# Altium footprint library mp2315.PcbLib: 2 footprints
Each footprint in its own frame and in the unit in brackets; x right, y up, seen from the top. Pads: shape width x height; smd on the part's side, far side on the other; paste and mask are expansions set on the pad; w line width, h text height; cw(c..) or ccw(c..) is an arc to the next point about the centre after c.
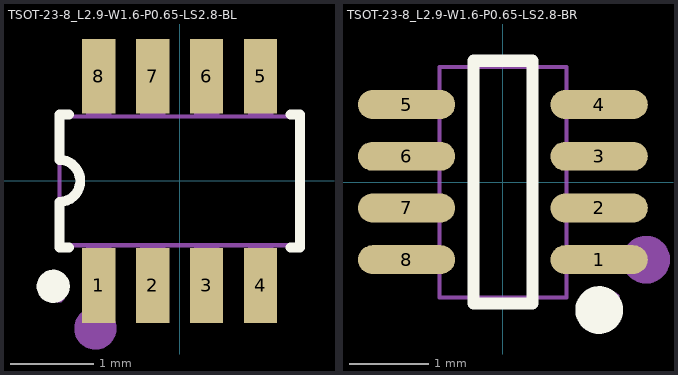
[diagram p0: the footprints below, top view; thin cyan lines are the x and y axes]

## TSOT-23-8_L2.9-W1.6-P0.65-LS2.8-BL [mm]
pads (8):
  rect 0.4x0.9 smd: 1(-0.975,-1.26) 2(-0.325,-1.26) 3(0.325,-1.26) 4(0.975,-1.26) 5(0.975,1.26) 6(0.325,1.26) 7(-0.325,1.26) 8(-0.975,1.26)
Top Overlay:
  circle w0.2: c-1.524,-1.27 r0.1
  lines w0.12: -1.451,-0.255 ccw(c-1.453,-0.001) -1.45,0.254 -1.45,0.8 -1.334,0.8 ; -1.45,-0.254 -1.45,-0.8 -1.334,-0.8 ; 1.334,-0.8 1.45,-0.8 1.45,0.8 1.334,0.8
Mechanical 6:
  circle w0.254: c-1.016,-1.778 r0.127
Mechanical 15:
  region: -1.125,-1.4 -1.125,-0.95 -0.825,-0.95 -0.825,-1.4
  region: -1.125,-0.96 -1.125,-0.765 -0.825,-0.765 -0.825,-0.96
  region: -0.475,-1.4 -0.475,-0.95 -0.175,-0.95 -0.175,-1.4
  region: -0.475,-0.96 -0.475,-0.765 -0.175,-0.765 -0.175,-0.96
  region: 0.175,-1.4 0.175,-0.95 0.475,-0.95 0.475,-1.4
  region: 0.175,-0.96 0.175,-0.765 0.475,-0.765 0.475,-0.96
  region: 0.825,-1.4 0.825,-0.95 1.125,-0.95 1.125,-1.4
  region: 0.825,-0.96 0.825,-0.765 1.125,-0.765 1.125,-0.96
  region: 0.825,0.95 0.825,1.4 1.125,1.4 1.125,0.95
  region: 0.825,0.765 0.825,0.96 1.125,0.96 1.125,0.765
  region: 0.175,0.95 0.175,1.4 0.475,1.4 0.475,0.95
  region: 0.175,0.765 0.175,0.96 0.475,0.96 0.475,0.765
  region: -0.475,0.95 -0.475,1.4 -0.175,1.4 -0.175,0.95
  region: -0.475,0.765 -0.475,0.96 -0.175,0.96 -0.175,0.765
  region: -1.125,0.95 -1.125,1.4 -0.825,1.4 -0.825,0.95
  region: -1.125,0.765 -1.125,0.96 -0.825,0.96 -0.825,0.765
  region: -1.39,-1.4 -1.39,-1.425 -1.425,-1.46 -1.475,-1.46 -1.51,-1.425 -1.51,-1.4 -1.51,-1.375 -1.475,-1.34 -1.425,-1.34 -1.39,-1.375
  lines w0.051: -1.45,-0.775 1.45,-0.775 1.45,0.775 -1.45,0.775 -1.45,-0.775

## TSOT-23-8_L2.9-W1.6-P0.65-LS2.8-BR [mm]
pads (8):
  oval 1.222x0.364 smd: 1(1.211,-0.975) 2(1.211,-0.325) 3(1.211,0.325) 4(1.211,0.975) 5(-1.211,0.975) 6(-1.211,0.325) 7(-1.211,-0.325) 8(-1.211,-0.975)
Top Overlay:
  circle w0.3: c1.211,-1.609 r0.15
  lines w0.152: -0.371,-1.526 -0.371,1.526 0.371,1.526 0.371,-1.526 -0.371,-1.526
Mechanical 6:
  circle w0.3: c1.8,-0.975 r0.15
Mechanical 15:
  region: -1.01,0.825 -0.79,0.825 -0.79,1.125 -1.01,1.125
  region: -1.4,0.825 -1,0.825 -1,1.125 -1.4,1.125
  region: -1.01,0.175 -0.79,0.175 -0.79,0.475 -1.01,0.475
  region: -1.4,0.175 -1,0.175 -1,0.475 -1.4,0.475
  region: -1.01,-0.475 -0.79,-0.475 -0.79,-0.175 -1.01,-0.175
  region: -1.4,-0.475 -1,-0.475 -1,-0.175 -1.4,-0.175
  region: -1.01,-1.125 -0.79,-1.125 -0.79,-0.825 -1.01,-0.825
  region: -1.4,-1.125 -1,-1.125 -1,-0.825 -1.4,-0.825
  region: 1.01,0.825 0.79,0.825 0.79,1.125 1.01,1.125
  region: 1.4,0.825 1,0.825 1,1.125 1.4,1.125
  region: 1.01,0.175 0.79,0.175 0.79,0.475 1.01,0.475
  region: 1.4,0.175 1,0.175 1,0.475 1.4,0.475
  region: 1.01,-0.475 0.79,-0.475 0.79,-0.175 1.01,-0.175
  region: 1.4,-0.475 1,-0.475 1,-0.175 1.4,-0.175
  region: 1.01,-1.125 0.79,-1.125 0.79,-0.825 1.01,-0.825
  region: 1.4,-1.125 1,-1.125 1,-0.825 1.4,-0.825
  region: 1.46,-1.45 1.46,-1.475 1.425,-1.51 1.375,-1.51 1.34,-1.475 1.34,-1.45 1.34,-1.425 1.375,-1.39 1.425,-1.39 1.46,-1.425
  lines w0.051: -0.8,-1.45 -0.8,1.45 0.8,1.45 0.8,-1.45 -0.8,-1.45